# Altium footprint library MB0030A.01.A.1.PcbLib: 1 footprints
Each footprint in its own frame and in the unit in brackets; x right, y up, seen from the top. Pads: shape width x height; smd on the part's side, far side on the other; paste and mask are expansions set on the pad; w line width, h text height; cw(c..) or ccw(c..) is an arc to the next point about the centre after c.
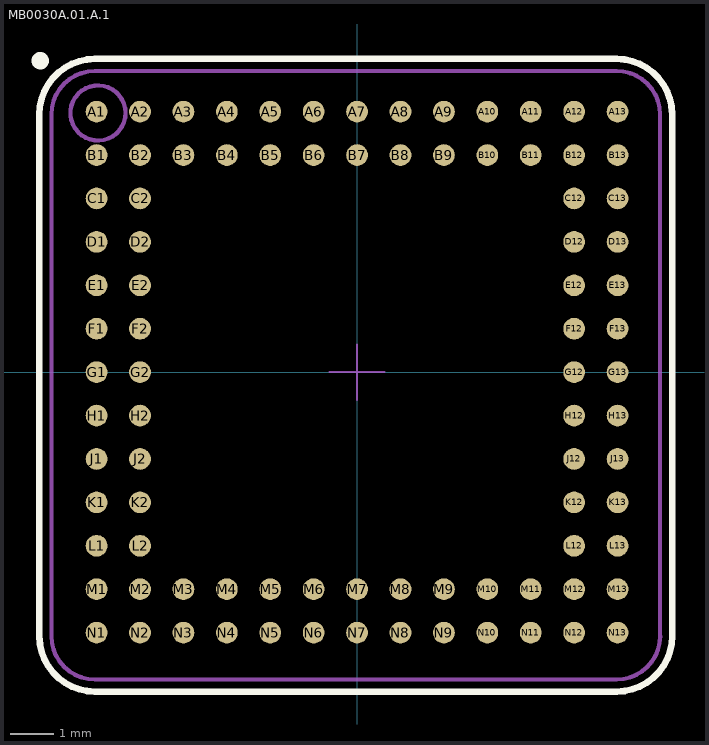
[diagram p0: the footprint, top view; thin cyan lines are the x and y axes]

## MB0030A.01.A.1 [mm] "Module Component - 1mm Pitch, 88-Pin, 14x14mm"
height 1.2
pads (88):
  round 0.5 smd: A1(-6,6) A2(-5,6) A3(-4,6) A4(-3,6) A5(-2,6) A6(-1,6) A7(0,6) A8(1,6) A9(2,6) A10(3,6) A11(4,6) A12(5,6) A13(6,6) B1(-6,5) B2(-5,5) B3(-4,5) B4(-3,5) B5(-2,5) B6(-1,5) B7(0,5) B8(1,5) B9(2,5) B10(3,5) B11(4,5) B12(5,5) B13(6,5) C1(-6,4) C2(-5,4) C12(5,4) C13(6,4) D1(-6,3) D2(-5,3) D12(5,3) D13(6,3) E1(-6,2) E2(-5,2) E12(5,2) E13(6,2) F1(-6,1) F2(-5,1) F12(5,1) F13(6,1) G1(-6,0) G2(-5,0) G12(5,0) G13(6,0) H1(-6,-1) H2(-5,-1) H12(5,-1) H13(6,-1) J1(-6,-2) J2(-5,-2) J12(5,-2) J13(6,-2) K1(-6,-3) K2(-5,-3) K12(5,-3) K13(6,-3) L1(-6,-4) L2(-5,-4) L12(5,-4) L13(6,-4) M1(-6,-5) M2(-5,-5) M3(-4,-5) M4(-3,-5) M5(-2,-5) M6(-1,-5) M7(0,-5) M8(1,-5) M9(2,-5) M10(3,-5) M11(4,-5) M12(5,-5) M13(6,-5) N1(-6,-6) N2(-5,-6) N3(-4,-6) N4(-3,-6) N5(-2,-6) N6(-1,-6) N7(0,-6) N8(1,-6) N9(2,-6) N10(3,-6) N11(4,-6) N12(5,-6) N13(6,-6)
Top Overlay:
  circle w0.2: c-7.3,7.173 r0.1
  lines w0.152: -6.043,-7.359 5.98,-7.359 ccw(c5.98,-6.08) 7.258,-6.08 ; -6.04,-7.358 cw(c-6.04,-6.08) -7.318,-6.08 -7.318,5.936 cw(c-6.04,5.936) -6.04,7.214 5.978,7.214 ; 5.978,7.215 cw(c5.978,5.937) 7.256,5.937 7.256,-6.08
Mechanical 13:
  circle w0.1: c-5.969,5.969 r0.635
  lines w0.1: -6.043,-7.081 5.98,-7.081 ; -6.04,-7.08 cw(c-6.04,-6.08) -7.04,-6.08 -7.04,5.936 cw(c-6.04,5.936) -6.04,6.936 ; -6.04,6.936 5.978,6.936 cw(c5.978,5.937) 6.978,5.937 6.978,-6.08 ; 5.98,-7.08 ccw(c5.98,-6.08) 6.98,-6.08
Mechanical 15:
  lines w0.05: -0.635,0 0.635,0 ; 0,-0.635 0,0.635
  lines w0.1: -6.043,-7.359 5.98,-7.359 ccw(c5.98,-6.08) 7.258,-6.08 ; -6.04,-7.358 cw(c-6.04,-6.08) -7.318,-6.08 -7.318,5.936 cw(c-6.04,5.936) -6.04,7.214 5.978,7.214 ; 5.978,7.215 cw(c5.978,5.937) 7.256,5.937 7.256,-6.08
3D body: height 3.81, standoff 0, extent -7.3,-7.3 7.3,7.3